# Altium footprint library Cinch.PcbLib: 7 footprints
Each footprint in its own frame and in the unit in brackets; x right, y up, seen from the top. Pads: shape width x height; smd on the part's side, far side on the other; paste and mask are expansions set on the pad; w line width, h text height; cw(c..) or ccw(c..) is an arc to the next point about the centre after c.
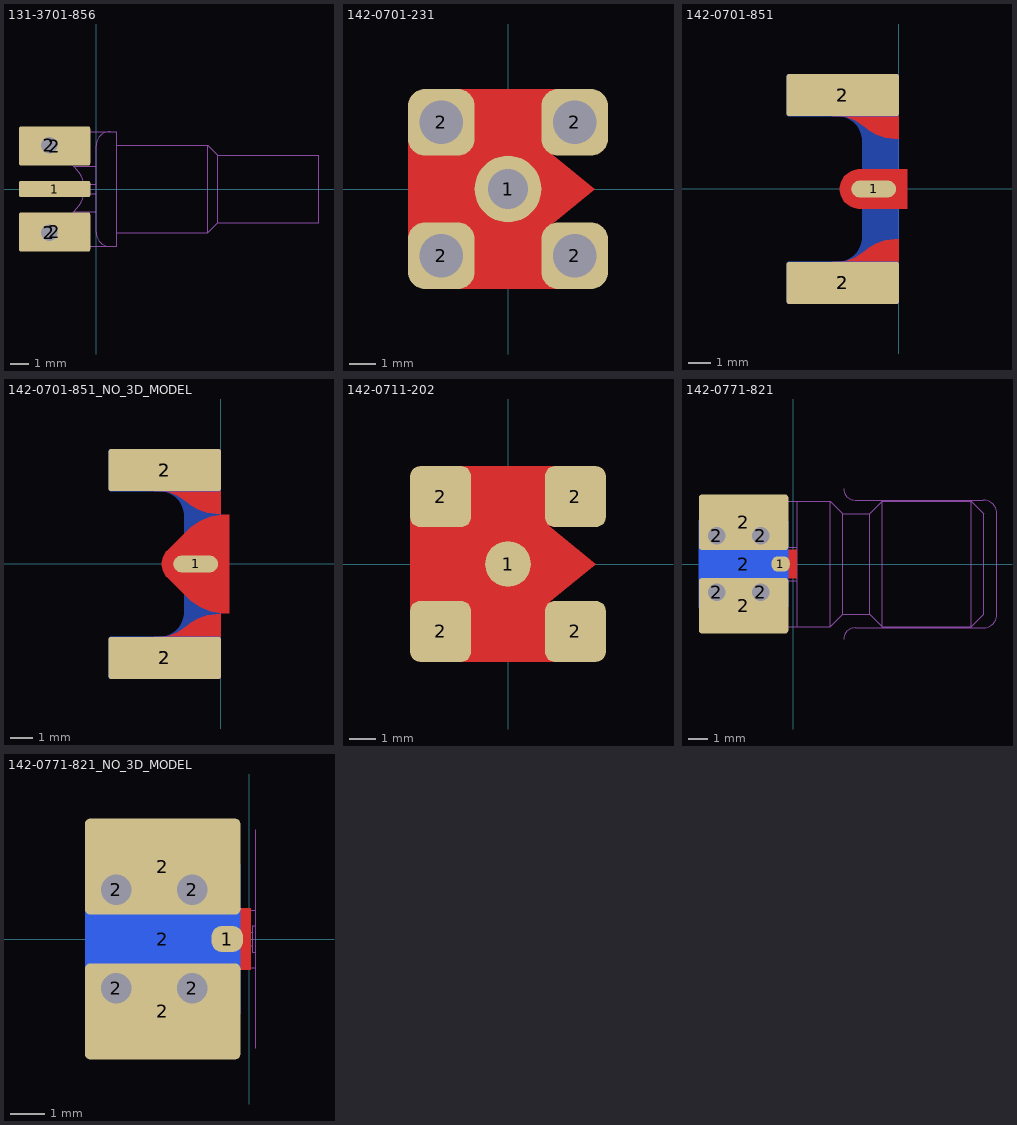
[diagram p0: the footprints below, top view; thin cyan lines are the x and y axes]

## 131-3701-856 [mil] "SMB, END LAUNCH BULKHEAD"
pads (5):
  rrect20% 155x35 smd mask+2: 1(-90,0)
  round 60 hole 36: 2(-102,-95) 2(-102,95)
  rrect10% 155x85 smd mask+2: 2(-90,-93.5) 2(-90,93.5)
Top Component Outline:
  circle w1: c-102,-95 r17
  circle w1: c-102,95 r17
  lines w1: -50,-50 0,-50 ; -50,50 0,50 ; 0,-10 -155,-10 -155,10 0,10 ; 31,-125 cw(c31,-94) 0,-94 0,94 cw(c31,94) 31,125 ; 45,-95 243,-95 ; 45,95 243,95 ; 243,-95 265,-73 ; 243,-95 243,95 ; 243,95 265,73 ; 265,-73 485,-73 485,73 265,73 ; 265,-73 265,73 ; -155,-125 -155,-62 -87,-62 ccw(c-87,0) -87,62 -155,62 -155,125 45,125 45,-125 -155,-125

## 142-0701-231 [mil]
pads (5):
  round 100 hole 60: 1(0,0)
  rrect50% 100x100 hole 65: 2(-100,-100) 2(-100,100) 2(100,-100) 2(100,100)
Top Layer:
  region: -100,-100 -100,-150 100,-150 100,-100
  region: 100,100 100,150 -100,150 -100,100
  region: -100,100 -150,100 -150,-100 -100,-100
  pour cut-out: -90,90 -90,-90 20,-90 130,0 20,90
  lines w38: 66.91,-74.31 cw(c0,0) 66.91,74.31
Top Component Outline:
  circle w1: c0,0 r81
  lines w1: -125,-125 -125,-62 -62,-62 -62,-125 -125,-125 ; -125,-125 -125,125 ; -125,-125 125,-125 ; -125,125 -62,125 -62,62 -125,62 -125,125 ; 125,-125 62,-125 62,-62 125,-62 125,-125 ; 62,62 62,125 125,125 125,62 62,62
3D body "142-0701-231.stp": height 375, standoff -110, extent -155.99,-155.99 156.01,156.01

## 142-0701-851 [mil]
pads (5):
  oval 80x30 smd mask+2: 1(-45,0)
  rrect10% 200x75 smd mask+2: 2(-100,-167.5) 2(-100,167.5)
  rrect10% 200x75 smd far side mask+2: 2(-100,-167.5) 2(-100,167.5)
Top Layer:
  region: -120,130 -115,130 -107.5,129.96 -92.68,127.69 -78.59,122.56 -65.78,114.79 -60,110 -53.85,104.67 -39.71,96.61 -24.27,91.46 -8.12,89.42 0,90 0,145 -120,145
  region: -120,-130 -115,-130 -107.5,-129.96 -92.68,-127.69 -78.59,-122.56 -65.78,-114.79 -60,-110 -53.85,-104.67 -39.71,-96.61 -24.27,-91.46 -8.12,-89.42 0,-90 0,-145 -120,-145
  pour cut-out: 15,35 -70,35 -73.45,35 -80.21,33.65 -86.58,31.02 -92.31,27.19 -97.19,22.31 -101.02,16.58 -103.65,10.21 -105,3.45 -105,0 -105,-3.45 -103.65,-10.21 -101.02,-16.58 -97.19,-22.31 -92.31,-27.19 -86.58,-31.02 -80.21,-33.65 -73.45,-35 -70,-35 15,-35
Bottom Layer:
  region: 0,165 0,-10 -65,-10 -65,85 -65.22,89.41 -66.94,98.06 -70.31,106.21 -75.21,113.55 -81.45,119.79 -88.79,124.69 -96.94,128.06 -105.59,129.78 -110,130 -110,165
  region: 0,-165 0,10 -65,10 -65,-85 -65.22,-89.41 -66.94,-98.06 -70.31,-106.21 -75.21,-113.55 -81.45,-119.79 -88.79,-124.69 -96.94,-128.06 -105.59,-129.78 -110,-130 -110,-165
Top Solder:
  rectangle: -37,-17 15,17
  region: 15,-88 -2,-88 -10,-202 -10,-207 15,-207
  region: 15,88 -2,88 -10,202 -10,207 15,207
Bottom Solder:
  rectangle: -15,-207 15,207
3D body "142-0701-851.stp": height 161, standoff -151, extent -181.99,-187.49 380,187.51

## 142-0701-851_NO_3D_MODEL [mil]
pads (5):
  oval 80x30 smd mask+2: 1(-45,0)
  rrect10% 200x75 smd mask+2: 2(-100,-167.5) 2(-100,167.5)
  rrect10% 200x75 smd far side mask+2: 2(-100,-167.5) 2(-100,167.5)
Top Layer:
  pour cut-out: 15,0 -105,0 -105,3.45 -103.66,10.21 -101.02,16.58 -97.19,22.31 -94.75,24.75 -60.79,58.71 -53.82,65.67 -37.44,76.62 -19.24,84.16 0.07,88 9.92,88 15,88
  pour cut-out: 15,0 -105,0 -105,-3.45 -103.66,-10.21 -101.02,-16.58 -97.19,-22.31 -94.75,-24.75 -60.79,-58.71 -53.82,-65.67 -37.44,-76.62 -19.24,-84.16 0.07,-88 9.92,-88 15,-88
  region: -120,130 -115,130 -107.5,129.96 -92.68,127.69 -78.59,122.56 -65.78,114.79 -60,110 -53.85,104.67 -39.71,96.61 -24.27,91.46 -8.12,89.42 0,90 0,145 -120,145
  region: -120,-130 -115,-130 -107.5,-129.96 -92.68,-127.69 -78.59,-122.56 -65.78,-114.79 -60,-110 -53.85,-104.67 -39.71,-96.61 -24.27,-91.46 -8.12,-89.42 0,-90 0,-145 -120,-145
Bottom Layer:
  region: 0,165 0,-10 -65,-10 -65,85 -65.22,89.41 -66.94,98.06 -70.31,106.21 -75.21,113.55 -81.45,119.79 -88.79,124.69 -96.94,128.06 -105.59,129.78 -110,130 -110,165
  region: 0,-165 0,10 -65,10 -65,-85 -65.22,-89.41 -66.94,-98.06 -70.31,-106.21 -75.21,-113.55 -81.45,-119.79 -88.79,-124.69 -96.94,-128.06 -105.59,-129.78 -110,-130 -110,-165
Top Solder:
  rectangle: -37,-17 15,17
  region: 15,-88 -2,-88 -10,-202 -10,-207 15,-207
  region: 15,88 -2,88 -10,202 -10,207 15,207
Bottom Solder:
  rectangle: -15,-207 15,207
3D body: height 10, standoff 0, extent -43,-8 -13,8

## 142-0711-202 [mil]
pads (5):
  round 68 smd mask+2: 1(0,0)
  rrect30% 90x90 smd paste-2 mask+2: 2(-100,-100) 2(-100,100) 2(100,-100) 2(100,100)
Top Layer:
  region: 100,100 100,145 -100,145 -100,100
  region: -100,100 -145,100 -145,-100 -100,-100
  region: -100,-100 -100,-145 100,-145 100,-100
  pour cut-out: -90,90 -90,-90 20,-90 130,0 20,90
  lines w38: 66.91,-74.31 cw(c0,0) 66.91,74.31
Top Solder:
  region: 70,-147 70,-100 -70,-100 -70,-147
  region: -70,147 -70,100 70,100 70,147
  lines w42: -66.91,-74.31 ccw(c0,0) 66.91,-74.31 ; -66.91,74.31 cw(c0,0) 66.91,74.31
Top Component Outline:
  circle w1: c0,0 r81
  lines w1: -125,-125 125,-125 ; -125,-125 -125,125 ; -125,-125 -62,-125 -62,-62 -125,-62 -125,-125 ; -125,125 -125,62 -62,62 -62,125 -125,125 ; 125,-125 125,-62 62,-62 62,-125 125,-125 ; 62,62 125,62 125,125 62,125 62,62
3D body "User Library-SMA_132134.STEP": height 344.09, standoff 0, extent -124.99,-124.99 125.01,125

## 142-0771-821 [mil] "SMA Connector"
pads (8):
  rrect80% 36x30 smd mask+2: 1(-25,0)
  round 50 hole 35: 2(-152,-56.5) 2(-152,56.5) 2(-65,-56.5) 2(-65,56.5)
  rrect10% 178x110 smd mask+2: 2(-99,-83) 2(-99,83)
  rrect10% 178x185 smd far side mask+2: 2(-99,0)
Top Layer:
  pour cut-out: 7,28 -33,28 -37.77,28 -46.59,24.35 -53.35,17.59 -57,8.77 -57,4 -57,-4 -57,-8.77 -53.35,-17.59 -46.59,-24.35 -37.77,-28 -33,-28 7,-28
Top Solder:
  rectangle: -23,-17 7,17
  rectangle: -23,-140 7,-26
  rectangle: -23,26 7,140
Bottom Solder:
  rectangle: -23,-94 7,94
Top Component Outline:
  circle w1: c-152,56.5 r16
  circle w1: c-65,56.5 r16
  circle w1: c-65,-56.5 r16
  circle w1: c-152,-56.5 r16
  lines w1: 4,-8 -26,-8 -26,8 4,8 ; 8,-125 8,125 ; 8,-33 -175,-33 -175,-125 73,-125 ; 8,-15 4,-15 4,15 8,15 ; 8,33 -175,33 -175,125 73,125 ; 99.99,-150 cw(c122.99,-150) 122.99,-127 377.99,-127 ccw(c377.99,-100) 404.99,-100 404.99,100 ccw(c377.99,100) 377.99,127 122.99,127 cw(c122.99,150) 99.99,150 ; 73,-125 73,125 ; 73,-125 98,-100 ; 73,125 98,100 ; 98,-100 98,100 ; 98,-100 152,-100 ; 98,100 152,100 ; 152,-100 177,-125 ; 152,-100 152,100 ; 152,100 177,125 ; 177,-125 177,125 ; 177,-125 354,-125 ; 177,125 354,125 ; 354,-125 354,125 ; 354,-125 379,-100 379,100 354,125
3D body "dr-3d-CSS-JOHN-142-0771-821.stp": height 125, standoff -125, extent -175,-124.99 379,124.99

## 142-0771-821_NO_3D_MODEL [mil] "SMA Connector"
pads (8):
  rrect80% 36x30 smd mask+2: 1(-25,0)
  round 50 hole 35: 2(-152,-56.5) 2(-152,56.5) 2(-65,-56.5) 2(-65,56.5)
  rrect10% 178x110 smd mask+2: 2(-99,-83) 2(-99,83)
  rrect10% 178x185 smd far side mask+2: 2(-99,0)
Top Layer:
  pour cut-out: 2,-35 -43,-35 -78,0 -43,35 2,35
Top Solder:
  rectangle: -23,26 7,140
  rectangle: -23,-140 7,-26
  rectangle: -23,-17 7,17
Bottom Solder:
  rectangle: -23,-94 7,94
Top Component Outline:
  circle w1: c-152,-56.5 r16
  circle w1: c-65,-56.5 r16
  circle w1: c-65,56.5 r16
  circle w1: c-152,56.5 r16
  lines w1: -175,-125 -175,-33 8,-33 ; -175,125 -175,33 8,33 ; 4,-8 -26,-8 -26,8 4,8 ; 8,-125 8,125 ; 8,-15 4,-15 4,15 8,15
3D body: height 10, standoff 0, extent -26,-8 4,8